# Altium schematic symbol library Hybrid Supercap.SchLib: 1 symbol
Pins are listed as number, name and electrical type; pins without a type are passive.

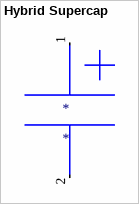
[diagram p0: symbol Hybrid Supercap]

## Hybrid Supercap
designator *
footprint Hybrid Supercap
pins: 1 Supercap +, 2 Supercap -